# EAGLE library part LANTRONIX_XPICO (library xPico)
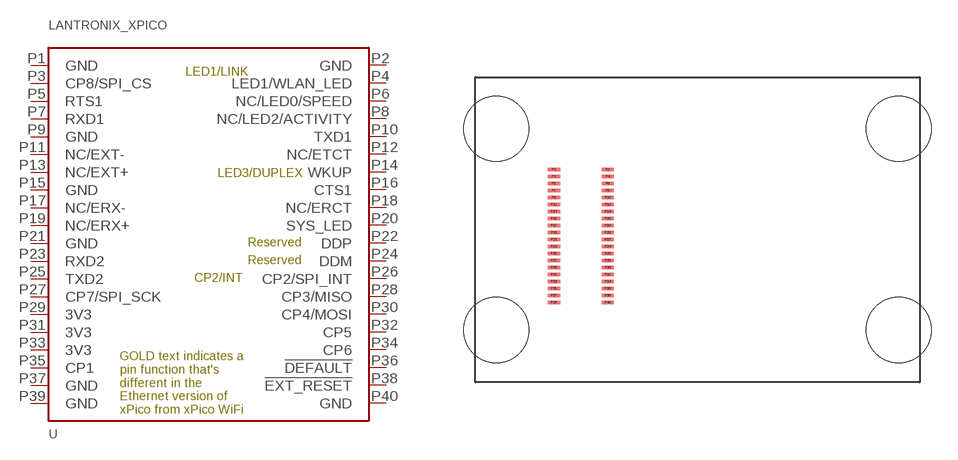
[diagram p0: symbol with the pads of LANTRONIX_XPICO; footprint LANTRONIX_XPICO]

Designator prefix -

## LANTRONIX_XPICO  [LANTRONIX_XPICO]
P1  GND
P2  GND
P3  CP8/SPI_CS
P4  LED1/WLAN_LED
P5  RTS1
P6  NC/LED0/SPEED
P7  RXD1
P8  NC/LED2/ACTIVITY
P9  GND
P10  TXD1
P11  NC/EXT-
P12  NC/ETCT
P13  NC/EXT+
P14  WKUP
P15  GND
P16  CTS1
P17  NC/ERX-
P18  NC/ERCT
P19  NC/ERX+
P20  SYS_LED
P21  GND
P22  DDP
P23  RXD2
P24  DDM
P25  TXD2
P26  CP2/SPI_INT
P27  CP7/SPI_SCK
P28  CP3/MISO
P29  3V3
P30  CP4/MOSI
P31  3V3
P32  CP5
P33  3V3
P34  CP6
P35  CP1
P36  !DEFAULT!
P37  GND
P38  !EXT_RESET!
P39  GND
P40  GND

## Footprint LANTRONIX_XPICO (pad centres in mm)
smd 0.7 x 0.2: P1 -8.21,3.43; P2 -5.13,3.43; P3 -8.21,3.03; P4 -5.13,3.03; P5 -8.21,2.63; P6 -5.13,2.63; P7 -8.21,2.23; P8 -5.13,2.23; P9 -8.21,1.83; P10 -5.13,1.83; P11 -8.21,1.43; P12 -5.13,1.43; P13 -8.21,1.03; P14 -5.13,1.03; P15 -8.21,0.63; P16 -5.13,0.63; P17 -8.21,0.23; P18 -5.13,0.23; P19 -8.21,-0.17; P20 -5.13,-0.17; P21 -8.21,-0.57; P22 -5.13,-0.57; P23 -8.21,-0.97; P24 -5.13,-0.97; P25 -8.21,-1.37; P26 -5.13,-1.37; P27 -8.21,-1.77; P28 -5.13,-1.77; P29 -8.21,-2.17; P30 -5.13,-2.17; P31 -8.21,-2.57; P32 -5.13,-2.57; P33 -8.21,-2.97; P34 -5.13,-2.97; P35 -8.21,-3.37; P36 -5.13,-3.37; P37 -8.21,-3.77; P38 -5.13,-3.77; P39 -8.21,-4.17; P40 -5.13,-4.17
hole 3.73 at -11.5,5.75
hole 3.73 at -11.5,-5.75
hole 3.73 at 11.5,5.75
hole 3.73 at 11.5,-5.75